# Altium footprint library Potentiometer.PcbLib: 22 footprints (part 1 of 2)
Each footprint in its own frame and in the unit in brackets; x right, y up, seen from the top. Pads: shape width x height; smd on the part's side, far side on the other; paste and mask are expansions set on the pad; w line width, h text height; cw(c..) or ccw(c..) is an arc to the next point about the centre after c.
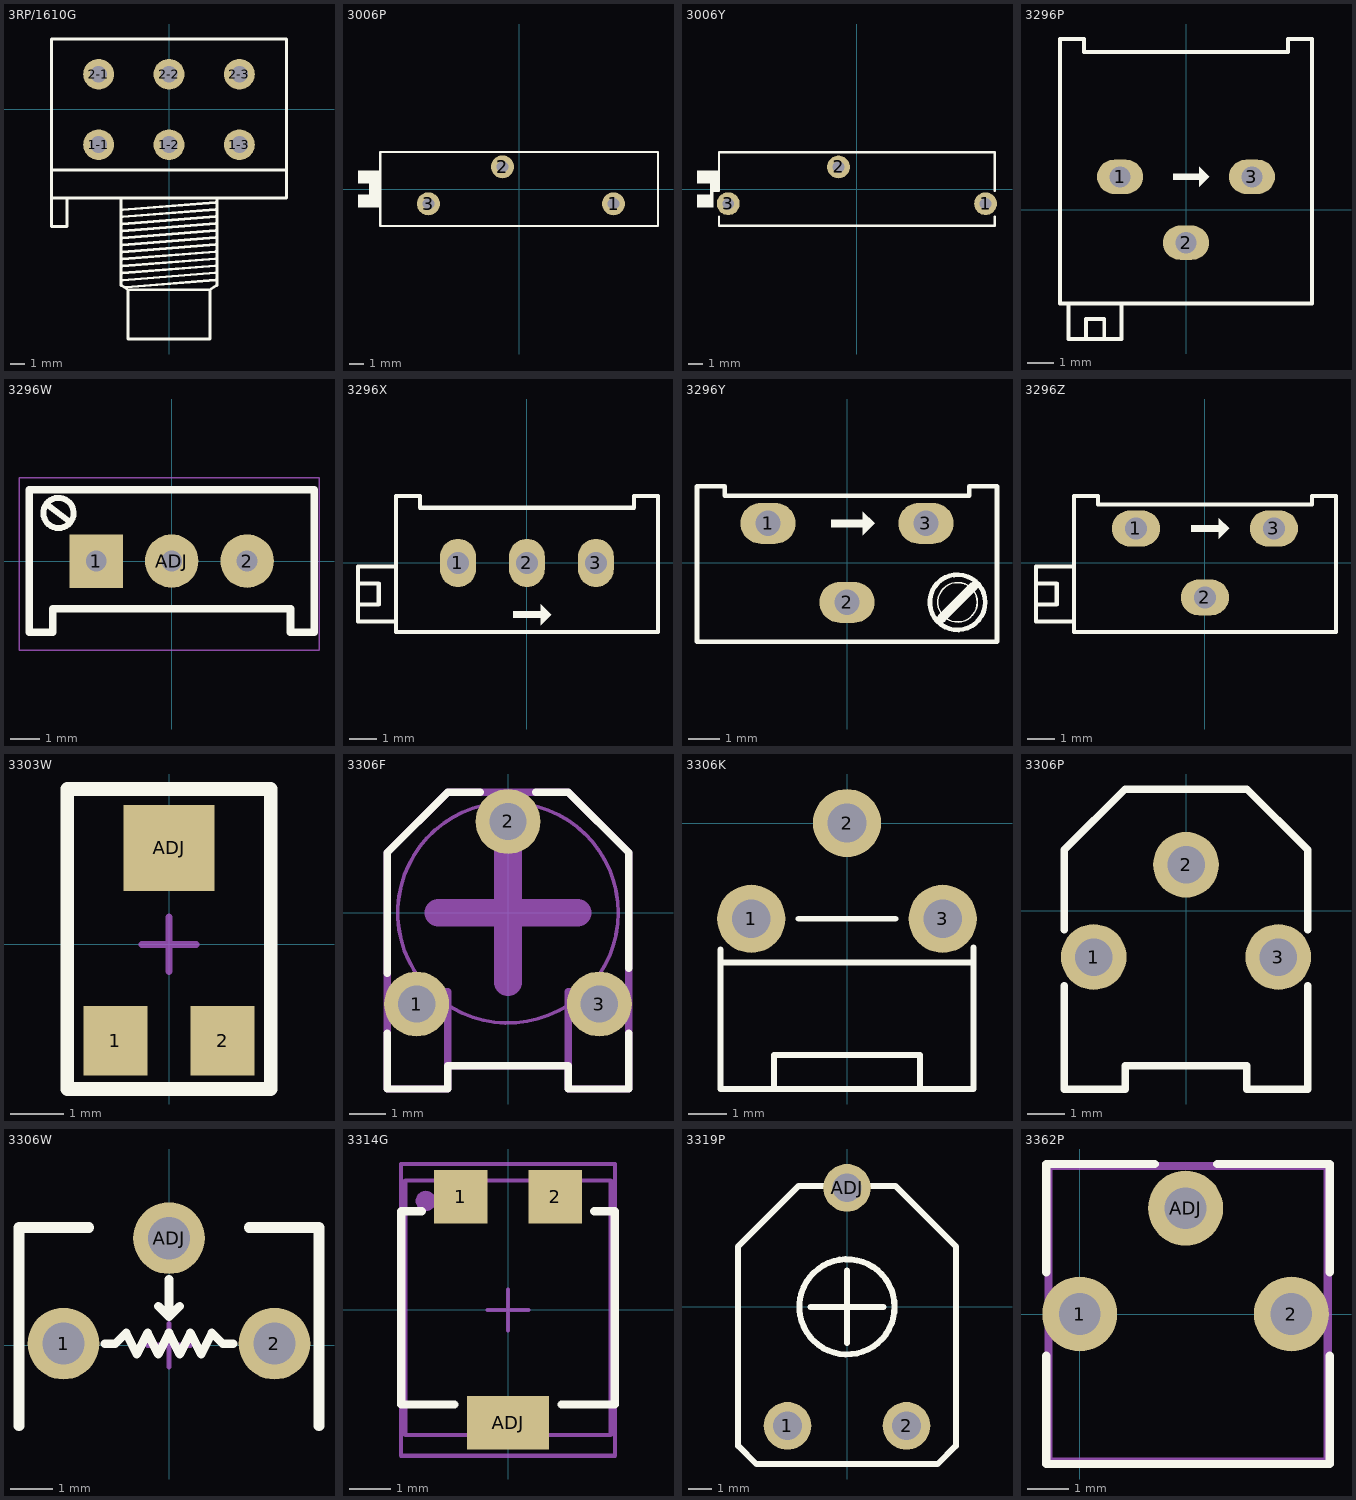
[diagram p0: the footprints below, top view; thin cyan lines are the x and y axes]

## 3RP/1610G [mm]
pads (6):
  round 2.184 hole 1.2: 1-1(-5,-2.5) 1-2(0,-2.5) 1-3(5,-2.5) 2-1(-5,2.5) 2-2(0,2.5) 2-3(5,2.5)
Top Overlay:
  lines w0.203: -8.35,-4.3 8.35,-4.3 ; -7.25,-6.4 -7.25,-8.3 -8.35,-8.3 -8.35,-6.3 ; -3.4,-6.4 -3.4,-12.5 -2.9,-12.8 ; -3.3,-12.125 3.3,-11.6 ; -3.3,-11.625 3.3,-11.1 ; -3.3,-11.125 3.3,-10.6 ; -3.3,-10.625 3.3,-10.1 ; -3.3,-10.125 3.3,-9.6 ; -3.3,-9.625 3.3,-9.1 ; -3.3,-9.125 3.3,-8.6 ; -3.3,-8.625 3.3,-8.1 ; -3.3,-8.125 3.3,-7.6 ; -3.3,-7.625 3.3,-7.1 ; -3.3,-7.125 3.3,-6.6 ; -3.075,-12.625 3.3,-12.1 ; 3.4,-6.4 3.4,-12.5 2.9,-12.8 ; -8.35,-6.3 8.35,-6.3 8.35,5 -8.35,5 -8.35,-6.3 ; -2.9,-12.8 -2.9,-16.3 2.9,-16.3 2.9,-12.8 ; -2.9,-12.8 2.9,-12.8
3D body "SW3dPS-ALPHA-potentiometer stereo PCB mount.STEP": height 21.2, standoff -3.3, extent -8.5,-36.033 8.5,4.817

## 3006P [mil]
pads (3):
  round 62 hole 32: 1(255,-40) 2(-45,60) 3(-245,-40)
Top Overlay:
  rectangle: -435,-50 -400,-15
  rectangle: -435,15 -400,50
  rectangle: -405,-50 -375,50
  lines w6: -375,-100 -375,100 375,100 375,-100 -375,-100
3D body "SW3dPS-bourns_3006p.STEP": height 250.98, standoff -204.02, extent -435,-95 375,95

## 3006Y [mil]
pads (3):
  round 62 hole 32: 1(350,-40) 2(-50,60) 3(-350,-40)
Top Overlay:
  rectangle: -435,-50 -400,-15
  rectangle: -435,15 -400,50
  rectangle: -400,-50 -390,50
  rectangle: -390,-5 -375,50
  lines w6: -390,-5 -375,-5 -375,100 375,100 375,-5 ; -375,-75 -375,-100 375,-100 375,-75

## 3296P [mil]
pads (3):
  oval 70x52 hole 32: 1(-100,50) 2(0,-50) 3(100,50)
Top Overlay:
  rectangle: -20,45 20,55
  region: 20,65 20,35 35,50
  lines w6: -178,-142 -178,-196 -98,-196 -98,-142 ; -152,-196 -152,-166 -124,-166 -124,-196 ; -191,-142 191,-142 191,259 155,259 155,239 -155,239 -155,259 -191,259 -191,-142
3D body "SW3dPS-bourns 3296P pot.STEP": height 173.27, standoff -342.13, extent -187.6,-198.73 187.6,256

## 3296W [mm] "Precise Multi-Winding Adjustable Resistor"
pads (3):
  rect 1.8x1.8 hole 0.7: 1(-2.54,0)
  round 1.8 hole 0.7: 2(2.54,0) ADJ(0,0)
Top Overlay:
  lines w0.2: -3.302,1.651 ccw(c-3.81,1.618) -3.301,1.608
  lines w0.203: -4.2,1.9 -3.464,1.348
  lines w0.254: -4.8,-2.4 -4.8,2.4 4.8,2.4 4.8,-2.4 4,-2.4 4,-1.6 -4,-1.6 -4,-2.4 -4.8,-2.4
Mechanical 15:
  lines w0.05: -5.14,-3 4.96,-3 4.96,2.8 -5.14,2.8 -5.14,-3
3D body "3296.STEP": height 11.52, standoff -3.48, extent -4.75,-2.4 4.75,2.4

## 3296X [mil]
pads (3):
  oval 52x70 hole 32: 1(-100,0) 2(0,0) 3(100,0)
Top Overlay:
  rectangle: -20,-80 20,-70
  region: 20,-60 20,-90 35,-75
  lines w6: -245,-60 -215,-60 -215,-30 -245,-30 ; -190,-85 -245,-85 -245,-5 -190,-5 ; -190,-100 -190,97 -155,97 -155,80 155,80 155,97 190,97 190,-100 -190,-100
3D body "SW3dPS-bourns 3296X pot.STEP": height 394.88, standoff -251.97, extent -247.44,-95 187.6,95.19

## 3296Y [mil]
pads (3):
  oval 70x52 hole 32: 1(-100,50) 2(0,-50) 3(100,50)
Top Overlay:
  circle w2: c140,-50 r25
  circle w6: c140,-50 r35
  rectangle: -20,45 20,55
  region: 20,65 20,35 35,50
  lines w6: -190,-100 190,-100 190,97 155,97 155,85 -155,85 -155,97 -190,97 -190,-100
  lines w12: 120,-70 160,-30
3D body "SW3dPS-bourns 3296Y pot.STEP": height 454.72, standoff -251.97, extent -187.6,-95 187.6,95.19

## 3296Z [mil]
pads (3):
  oval 70x52 hole 32: 1(-100,50) 2(0,-50) 3(100,50)
Top Overlay:
  rectangle: -20,45 20,55
  region: 20,65 20,35 35,50
  lines w6: -245,-60 -215,-60 -215,-30 -245,-30 ; -190,-85 -245,-85 -245,-5 -190,-5 ; -190,-100 190,-100 190,97 155,97 155,85 -155,85 -155,97 -190,97 -190,-100
3D body "SW3dPS-bourns 3296Z pot.STEP": height 394.88, standoff -251.97, extent -247.44,-95 187.6,95.19

## 3303W [mm] "3.5*3.1*1.5mm"
pads (3):
  rect 1.2x1.3 smd: 1(-1,-1.8) 2(1,-1.8)
  rect 1.7x1.6 smd: ADJ(0,1.8)
Top Overlay:
  lines w0.254: -1.9,-2.7 1.9,-2.7 1.9,2.9 -1.9,2.9 -1.9,-2.7
Mechanical 15:
  lines w0.127: -0.508,0 0.508,0 ; 0,-0.508 0,0.508
3D body "3303W.STEP": height 1.45, standoff -0.01, extent -1.55,-2.055 1.55,2.05

## 3306F [mil]
pads (3):
  round 70 hole 40: 1(-98.43,-98.43) 2(0,98.43) 3(98.43,-98.43)
Top Overlay:
  lines w8: -130,-130 -130,-190 -65,-190 -65,-165 65,-165 65,-190 130,-190 130,-130 ; -130,-65 -130,65 -65,130 -30,130 ; 30,130 65,130 130,65 130,-60
Mechanical 1:
  circle w3.94: c0,0 r118.85
  lines w8: -130,-60 -130,-85 -65,-85 -65,-165 ; 130,-60 130,-85 65,-85 65,-165 ; -65,-165 65,-165 ; -65,-165 -65,-190 -130,-190 -130,65 -65,130 65,130 130,65 130,-190 65,-190 65,-165
  lines w30: -75,0 75,0 ; 0,-75 0,75
3D body "User Library-Trimmer, 3306F-1.STEP": height 300, standoff -119.49, extent -134.05,-191.99 134.05,132.88

## 3306K [mil]
pads (3):
  round 70 hole 40: 1(-98.43,-98.43) 2(0,0) 3(98.43,-98.43)
Top Overlay:
  lines w6: -130,-143.43 130,-143.43 ; -130,-130 -130,-273.43 130,-273.43 130,-127.95 ; -75,-273.43 -75,-238.43 75,-238.43 75,-273.43 ; -50,-98.43 50,-98.43

## 3306P [mil]
pads (3):
  round 70 hole 40: 1(-98.43,-49.21) 2(0,49.21) 3(98.43,-49.21)
Top Overlay:
  lines w8: -130,-80 -130,-190 -65,-190 -65,-165 65,-165 65,-190 130,-190 130,-80 ; -130,-20 -130,65 -65,130 65,130 130,65 130,-20

## 3306W [mm]
pads (3):
  round 1.7 hole 1: 1(-2.5,0.04) 2(2.5,0.04) ADJ(0,2.54)
Top Overlay:
  lines w0.203: -1.524,0.04 -1.27,0.04 -1.016,0.294 -0.762,-0.214 -0.508,0.294 -0.254,-0.214 0,0.294 0.254,-0.214 0.508,0.294 0.762,-0.214 1.016,0.294 1.27,0.04 1.524,0.04 ; -0.254,0.929 0,0.675 ; 0,1.564 0,0.675 ; 0.254,0.929 0,0.675
  lines w0.254: -3.556,-1.905 -3.556,2.794 -1.905,2.794 ; 1.905,2.794 3.556,2.794 3.556,-1.905
Mechanical 15:
  lines w0.127: -0.508,0 0.508,0 ; 0,-0.508 0,0.508
3D body "POT-3306W.STEP": height 8.6, standoff -1.71, extent -3.405,-1.96 3.405,2.69

## 3314G [mm]
pads (4):
  rect 1.3x1.3 smd: 1(-1.15,2.75) 2(1.15,2.75)
  rect 2x1.3 smd: ADJ(0,-2.75)
  round 0.5 on Mech1: ""(-2,2.65)
Top Overlay:
  lines w0.2: -2.1,2.4 -2.6,2.4 -2.6,-2.3 -1.3,-2.3 ; 1.3,-2.3 2.6,-2.3 2.6,2.4 2.1,2.4
Mechanical 1:
  lines w0.1: -2.499,-3.049 -2.499,3.149 2.5,3.149 2.5,-3.049 -2.499,-3.049
Mechanical 15:
  lines w0.1: -0.5,0 0.5,0 ; 0,-0.5 0,0.5 ; -2.6,-3.55 -2.6,3.55 2.6,3.55 2.6,-3.55 -2.6,-3.55
3D body "3314g-1-103e.stp": height 2.72, standoff -0.01, extent -2.499,-3.049 2.5,3.149

## 3319P [mm]
pads (3):
  round 2 hole 1.2: 1(-2.5,-5) 2(2.5,-5) ADJ(0,5)
Top Overlay:
  circle w0.254: c0,0 r2
  lines w0.254: -1.524,0 1.524,0 ; 0,-1.524 0,1.524 ; -4.572,-5.842 -3.81,-6.604 3.81,-6.604 4.572,-5.842 4.572,-4.064 4.572,2.54 2.032,5.08 -2.032,5.08 -4.572,2.54 -4.572,-5.08 -4.572,-5.842
Mechanical 15:
  lines w0.127: -0.508,0 0.508,0 ; 0,-0.508 0,0.508
3D body "RES3319.STEP": height 6.55, standoff -3.8, extent -4.5,-6.512 4.5,5.39

## 3362P [mm]
pads (3):
  round 1.8 hole 1: 1(0,0) 2(5.08,0) ADJ(2.54,2.54)
Top Overlay:
  lines w0.2: -0.8,-1 -0.8,-3.6 6,-3.6 6,-1 ; -0.8,1 -0.8,3.6 1.8,3.6 ; 3.3,3.6 6,3.6 6,1
Mechanical 1:
  lines w0.1: -0.7,-3.49 5.9,-3.49 5.9,3.5 -0.7,3.5 -0.7,-3.49
Mechanical 15:
  lines w0.1: -0.8,-3.6 6,-3.6 6,3.6 -0.8,3.6 -0.8,-3.6
3D body "User Library-R_3362P.STEP": height 4.5, standoff -3, extent -0.7,-3.49 5.9,3.5